# Altium footprint library Header_TE_Connectivity_87224-3_3POS.PcbLib: 1 footprints
Each footprint in its own frame and in the unit in brackets; x right, y up, seen from the top. Pads: shape width x height; smd on the part's side, far side on the other; paste and mask are expansions set on the pad; w line width, h text height; cw(c..) or ccw(c..) is an arc to the next point about the centre after c.
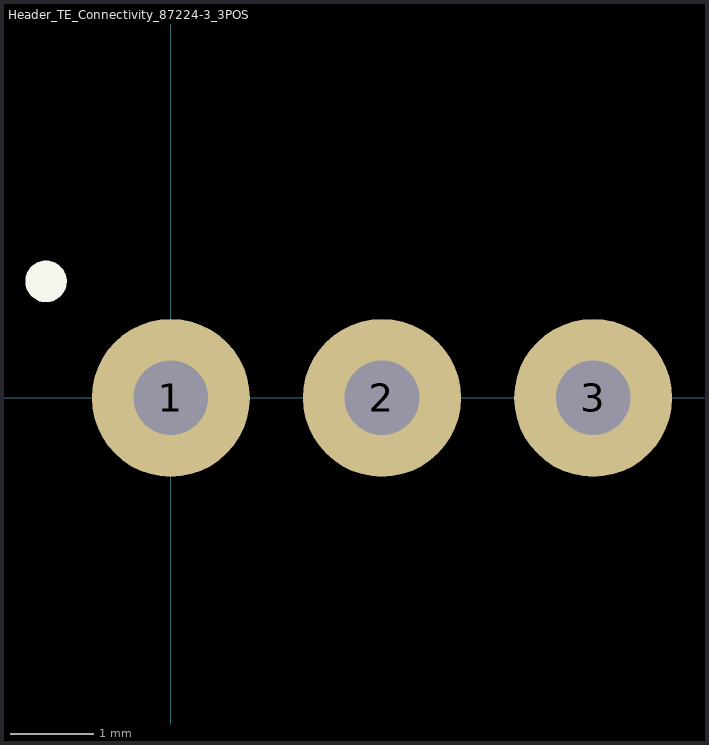
[diagram p0: the footprint, top view; thin cyan lines are the x and y axes]

## Header_TE_Connectivity_87224-3_3POS [mm] "Headers & Wire Housings UNSHRD VERT SNGL 3"
pads (3):
  round 1.9 hole 0.9: 1(0,0) 2(2.54,0) 3(5.08,0)
Top Overlay:
  lines w0.254: -1.382,1.435 ccw(c-1.5,1.4) -1.38,1.426